# EAGLE library part 4015 (library vinoth-autodeskEagle)
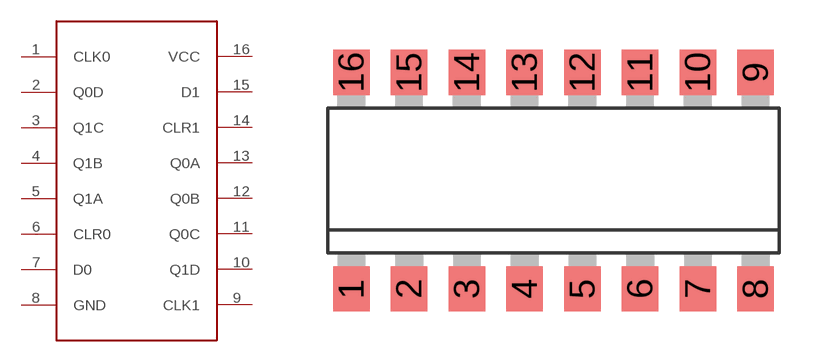
[diagram p4: symbol with the pads of DIL-16; footprint DIL-16]

Designator prefix -

## 4015  [DIL-16]
1  CLK0
2  Q0D
3  Q1C
4  Q1B
5  Q1A
6  CLR0
7  D0
8  GND
9  CLK1
10  Q1D
11  Q0C
12  Q0B
13  Q0A
14  CLR1
15  D1
16  VCC

## Footprint DIL-16 (pad centres in mm)
smd 1.6 x 2: 1 -3.81,-4.77; 2 -1.27,-4.77; 3 1.27,-4.77; 4 3.81,-4.77; 5 6.35,-4.77; 6 8.89,-4.77; 7 11.43,-4.77; 8 13.97,-4.77; 9 13.97,4.77; 10 11.43,4.77; 11 8.89,4.77; 12 6.35,4.77; 13 3.81,4.77; 14 1.27,4.77; 15 -1.27,4.77; 16 -3.81,4.77